# EAGLE library part ATTINY1634 (library pimoroni)
ATTINY1634 16kB 12MHz I2C/SPI/UART
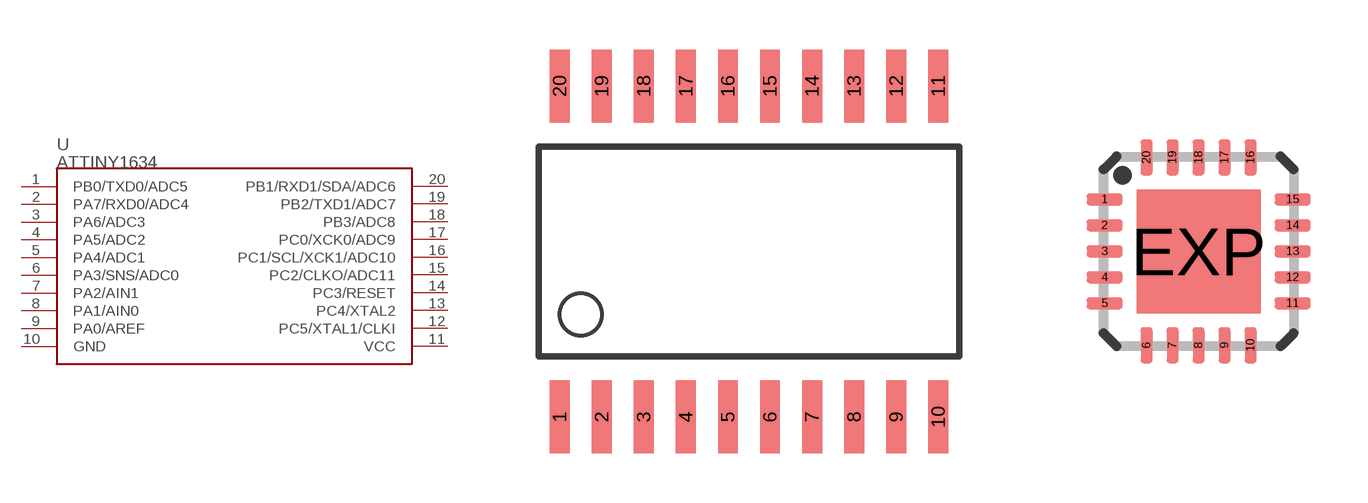
[diagram p9: symbol with the pads of SOP20W; footprints SOP20W, MLF20-5X5-TH]

Designator prefix U

## ATTINY1634SOP (PROD_ID: IC-11305; VALUE: ATTINY1634)  [SOP20W]
1  PB0/TXD0/ADC5
2  PA7/RXD0/ADC4
3  PA6/ADC3
4  PA5/ADC2
5  PA4/ADC1
6  PA3/SNS/ADC0
7  PA2/AIN1
8  PA1/AIN0
9  PA0/AREF
10  GND
11  VCC
12  PC5/XTAL1/CLKI
13  PC4/XTAL2
14  PC3/RESET
15  PC2/CLKO/ADC11
16  PC1/SCL/XCK1/ADC10
17  PC0/XCK0/ADC9
18  PB3/ADC8
19  PB2/TXD1/ADC7
20  PB1/RXD1/SDA/ADC6

## ATTINY1634MLF (PROD_ID: IC-11305; VALUE: ATTINY1634)  [MLF20-5X5-TH]
1  PA6/ADC3
2  PA5/ADC2
3  PA4/ADC1
4  PA3/SNS/ADC0
5  PA2/AIN1
6  PA1/AIN0
7  PA0/AREF
8  GND
9  VCC
10  PC5/XTAL1/CLKI
11  PC4/XTAL2
12  PC3/RESET
14  PC1/SCL/XCK1/ADC10
15  PC0/XCK0/ADC9
15  PC2/CLKO/ADC11
16  PB3/ADC8
17  PB2/TXD1/ADC7
18  PB1/RXD1/SDA/ADC6
19  PB0/TXD0/ADC5
20  PA7/RXD0/ADC4

## Footprint SOP20W (pad centres in mm)
SMALL OUTLINE PACKAGE
smd 0.6 x 2.2: 1 -5.715,-5; 2 -4.445,-5; 3 -3.175,-5; 4 -1.905,-5; 5 -0.635,-5; 6 0.635,-5; 7 1.905,-5; 8 3.175,-5; 9 4.445,-5; 10 5.715,-5; 11 5.715,5; 12 4.445,5; 13 3.175,5; 14 1.905,5; 15 0.635,5; 16 -0.635,5; 17 -1.905,5; 18 -3.175,5; 19 -4.445,5; 20 -5.715,5

## Footprint MLF20-5X5-TH (pad centres in mm)
HP-VFQFP-N20 QFN 20 -5 x 5 mm Micro Lead Frame package (MLF) Source: http://www.atmel.com/dyn/resources/prod_documents/doc4533.pdf
smd 0.9 x 0.3: 1 -2.35,1.3; 2 -2.35,0.65; 3 -2.35,0; 4 -2.35,-0.65; 5 -2.35,-1.3; 11 2.35,-1.3; 12 2.35,-0.65; 13 2.35,0; 14 2.35,0.65; 15 2.35,1.3
smd 0.3 x 0.9: 6 -1.3,-2.35; 7 -0.65,-2.35; 8 0,-2.35; 9 0.65,-2.35; 10 1.3,-2.35; 16 1.3,2.35; 17 0.65,2.35; 18 0,2.35; 19 -0.65,2.35; 20 -1.3,2.35
smd 3.1 x 3.1: EXP 0,0